# EAGLE library part ADS1110 (library Simplex-ICs)
TI ADS1110
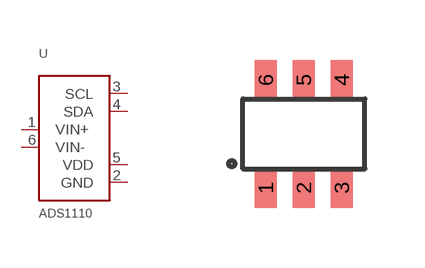
[diagram p6: symbol with the pads of SOT23-6; footprint SOT23-6]

Designator prefix -

## ADS1110  [SOT23-6]
1  VIN+  in
2  GND  pwr
3  SCL
4  SDA
5  VDD  pwr
6  VIN-  in

## Footprint SOT23-6 (pad centres in mm)
smd 0.55 x 1: 1 0,0; 2 0.95,0; 3 1.9,0; 4 1.9,2.7; 5 0.95,2.7; 6 0,2.7